# Altium footprint library Inductor_SMD.PcbLib: 587 footprints (part 14 of 37)
Each footprint in its own frame and in the unit in brackets; x right, y up, seen from the top. Pads: shape width x height; smd on the part's side, far side on the other; paste and mask are expansions set on the pad; w line width, h text height; cw(c..) or ccw(c..) is an arc to the next point about the centre after c.
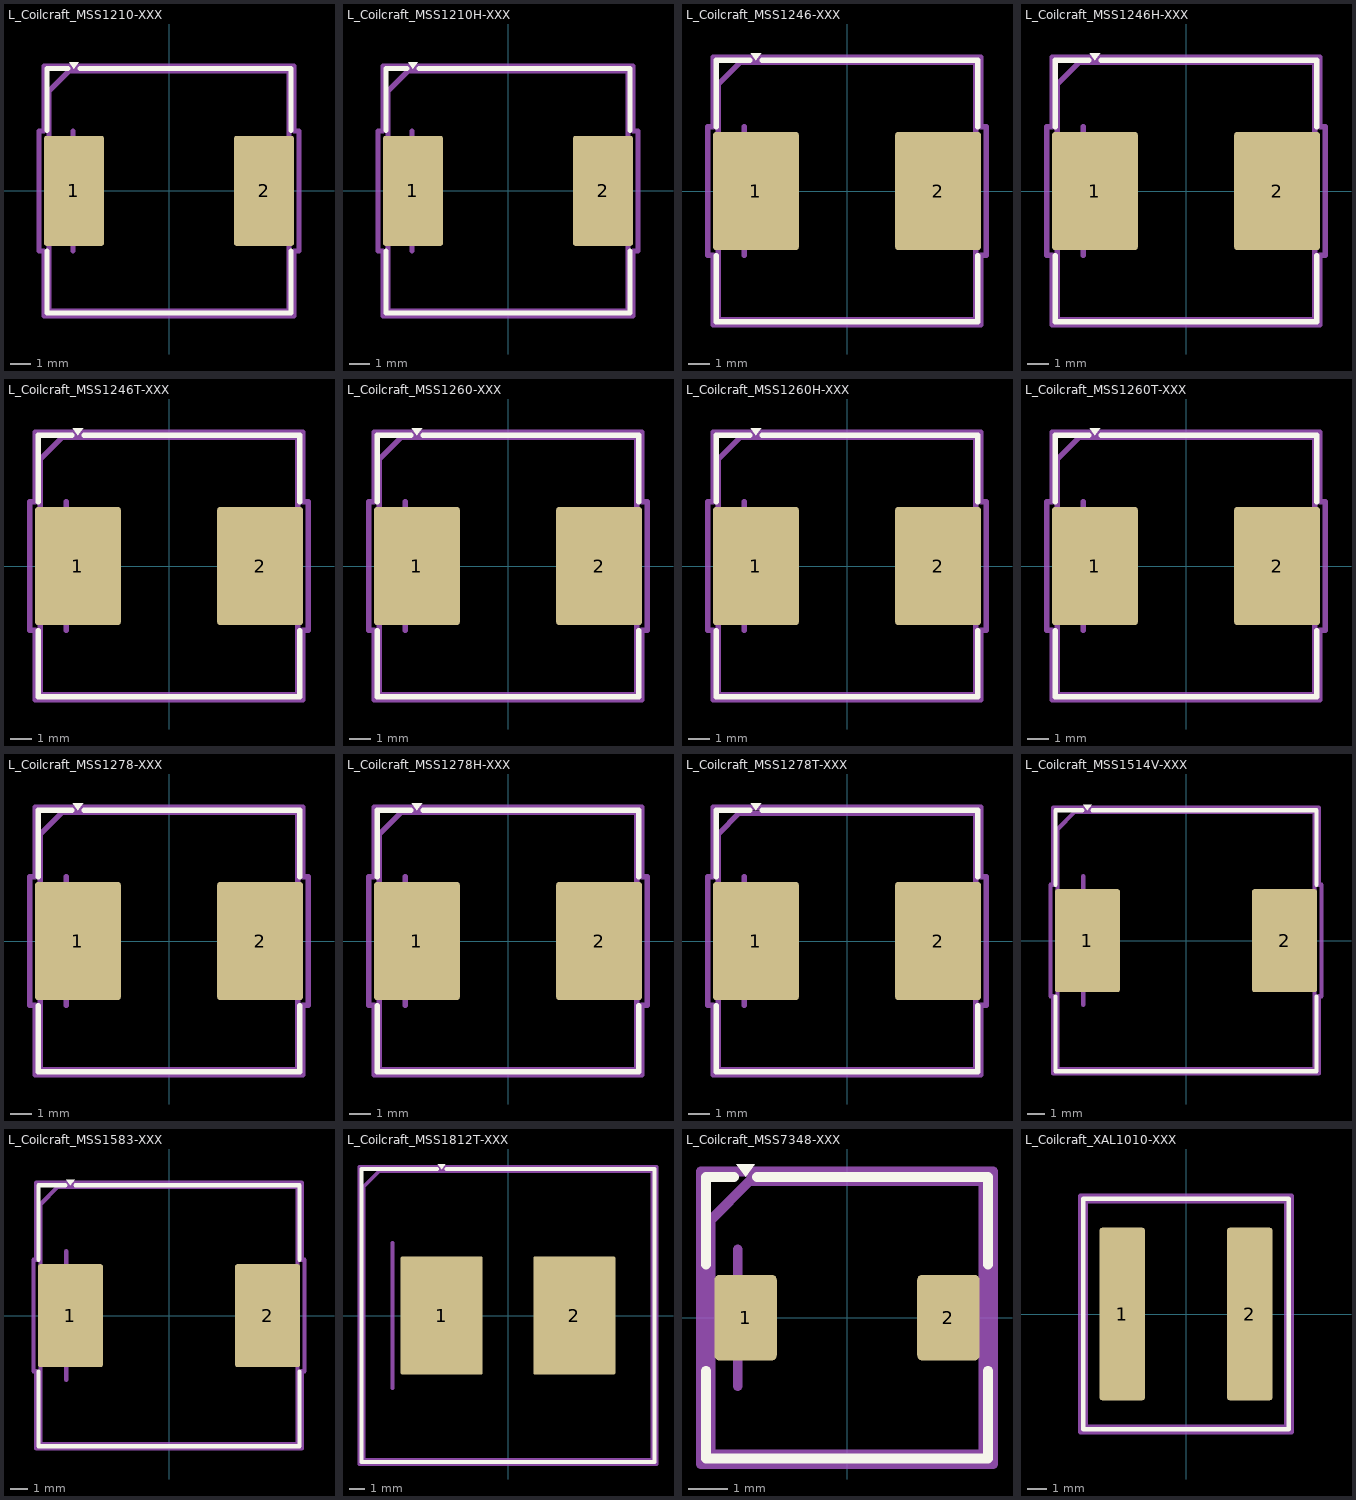
[diagram p13: the footprints below, top view; thin cyan lines are the x and y axes]

## L_Coilcraft_MSS1210-XXX [mm] "L_Coilcraft_MSS1210-XXX"
pads (2):
  rrect8% 3x5.5 smd: 1(-4.75,0) 2(4.75,0)
F.SilkS:
  region: -4.75,6.11 -4.99,6.44 -4.51,6.44
  lines w0.254: -6.11,-3.01 -6.11,-6.11 6.11,-6.11 6.11,-3.01 ; -6.11,3.01 -6.11,6.11 -5.047,6.11 ; -4.453,6.11 6.11,6.11 6.11,3.01
Top Assembly:
  lines w0.254: -4.8,-3 -4.8,3 ; -6,-6 -6,5 -5,6 6,6 6,-6 -6,-6
  text "'.Designator'" at -4.047,-0.84 h1
Top Courtyard:
  lines w0.254: -6.5,-3 -6.25,-3 -6.25,-6.25 6.25,-6.25 6.25,-3 6.5,-3 6.5,3 6.25,3 6.25,6.25 -6.25,6.25 -6.25,3 -6.5,3 -6.5,-3
Top Designator:
  text ".Designator" at -7.618,-0.476 h1.52
3D body "L_Coilcraft_MSS1210-XXX.step": height 10, standoff 0, extent -6,-6 6,6

## L_Coilcraft_MSS1210H-XXX [mm] "L_Coilcraft_MSS1210H-XXX"
pads (2):
  rrect8% 3x5.5 smd: 1(-4.75,0) 2(4.75,0)
F.SilkS:
  region: -4.75,6.11 -4.99,6.44 -4.51,6.44
  lines w0.254: -6.11,-3.01 -6.11,-6.11 6.11,-6.11 6.11,-3.01 ; -6.11,3.01 -6.11,6.11 -5.047,6.11 ; -4.453,6.11 6.11,6.11 6.11,3.01
Top Assembly:
  lines w0.254: -4.8,-3 -4.8,3 ; -6,-6 -6,5 -5,6 6,6 6,-6 -6,-6
  text "'.Designator'" at -4.047,-0.84 h1
Top Courtyard:
  lines w0.254: -6.5,-3 -6.25,-3 -6.25,-6.25 6.25,-6.25 6.25,-3 6.5,-3 6.5,3 6.25,3 6.25,6.25 -6.25,6.25 -6.25,3 -6.5,3 -6.5,-3
Top Designator:
  text ".Designator" at -7.618,-0.476 h1.52
3D body "L_Coilcraft_MSS1210H-XXX.step": height 10, standoff 0, extent -6,-6 6,6

## L_Coilcraft_MSS1246-XXX [mm] "L_Coilcraft_MSS1246-XXX"
pads (2):
  rrect6% 4x5.5 smd: 1(-4.25,0) 2(4.25,0)
F.SilkS:
  region: -4.25,6.11 -4.49,6.44 -4.01,6.44
  lines w0.254: -6.11,-3.01 -6.11,-6.11 6.11,-6.11 6.11,-3.01 ; -6.11,3.01 -6.11,6.11 -4.547,6.11 ; -3.953,6.11 6.11,6.11 6.11,3.01
Top Assembly:
  lines w0.254: -4.8,-3 -4.8,3 ; -6,-6 -6,5 -5,6 6,6 6,-6 -6,-6
  text "'.Designator'" at -4.047,-0.84 h1
Top Courtyard:
  lines w0.254: -6.5,-3 -6.25,-3 -6.25,-6.25 6.25,-6.25 6.25,-3 6.5,-3 6.5,3 6.25,3 6.25,6.25 -6.25,6.25 -6.25,3 -6.5,3 -6.5,-3
Top Designator:
  text ".Designator" at -7.618,-0.476 h1.52
3D body "L_Coilcraft_MSS1246-XXX.step": height 4.6, standoff 0, extent -6,-6 6,6

## L_Coilcraft_MSS1246H-XXX [mm] "L_Coilcraft_MSS1246H-XXX"
pads (2):
  rrect6% 4x5.5 smd: 1(-4.25,0) 2(4.25,0)
F.SilkS:
  region: -4.25,6.11 -4.49,6.44 -4.01,6.44
  lines w0.254: -6.11,-3.01 -6.11,-6.11 6.11,-6.11 6.11,-3.01 ; -6.11,3.01 -6.11,6.11 -4.547,6.11 ; -3.953,6.11 6.11,6.11 6.11,3.01
Top Assembly:
  lines w0.254: -4.8,-3 -4.8,3 ; -6,-6 6,-6 6,6 -5,6 -6,5 -6,-6
  text "'.Designator'" at -4.047,-0.84 h1
Top Courtyard:
  lines w0.254: -6.5,-3 -6.25,-3 -6.25,-6.25 6.25,-6.25 6.25,-3 6.5,-3 6.5,3 6.25,3 6.25,6.25 -6.25,6.25 -6.25,3 -6.5,3 -6.5,-3
Top Designator:
  text ".Designator" at -8.888,-0.381 h1.52
3D body "L_Coilcraft_MSS1246H-XXX.step": height 4.65, standoff 0, extent -6,-6 6,6

## L_Coilcraft_MSS1246T-XXX [mm] "L_Coilcraft_MSS1246T-XXX"
pads (2):
  rrect6% 4x5.5 smd: 1(-4.25,0) 2(4.25,0)
F.SilkS:
  region: -4.25,6.11 -4.49,6.44 -4.01,6.44
  lines w0.254: -6.11,-3.01 -6.11,-6.11 6.11,-6.11 6.11,-3.01 ; -6.11,3.01 -6.11,6.11 -4.547,6.11 ; -3.953,6.11 6.11,6.11 6.11,3.01
Top Assembly:
  lines w0.254: -4.8,-3 -4.8,3 ; -6,-6 -6,5 -5,6 6,6 6,-6 -6,-6
  text "'.Designator'" at -4.047,-0.84 h1
Top Courtyard:
  lines w0.254: -6.5,-3 -6.25,-3 -6.25,-6.25 6.25,-6.25 6.25,-3 6.5,-3 6.5,3 6.25,3 6.25,6.25 -6.25,6.25 -6.25,3 -6.5,3 -6.5,-3
Top Designator:
  text ".Designator" at -7.618,-0.476 h1.52
3D body "L_Coilcraft_MSS1246T-XXX.step": height 4.6, standoff 0, extent -6,-6 6,6

## L_Coilcraft_MSS1260-XXX [mm] "L_Coilcraft_MSS1260-XXX"
pads (2):
  rrect6% 4x5.5 smd: 1(-4.25,0) 2(4.25,0)
F.SilkS:
  region: -4.25,6.11 -4.49,6.44 -4.01,6.44
  lines w0.254: -6.11,-3.01 -6.11,-6.11 6.11,-6.11 6.11,-3.01 ; -6.11,3.01 -6.11,6.11 -4.547,6.11 ; -3.953,6.11 6.11,6.11 6.11,3.01
Top Assembly:
  lines w0.254: -4.8,-3 -4.8,3 ; -6,-6 6,-6 6,6 -5,6 -6,5 -6,-6
Top Courtyard:
  lines w0.254: -6.5,-3 -6.5,3 -6.25,3 -6.25,6.25 6.25,6.25 6.25,3 6.5,3 6.5,-3 6.25,-3 6.25,-6.25 -6.25,-6.25 -6.25,-3 -6.5,-3
Top Designator:
  text ".Designator" at -7.618,-0.476 h1.52
3D body "L_Coilcraft_MSS1260-XXX.step": height 6, standoff 0, extent -6,-6 6,6

## L_Coilcraft_MSS1260H-XXX [mm] "L_Coilcraft_MSS1260H-XXX"
pads (2):
  rrect6% 4x5.5 smd: 1(-4.25,0) 2(4.25,0)
F.SilkS:
  region: -4.25,6.11 -4.49,6.44 -4.01,6.44
  lines w0.254: -6.11,-3.01 -6.11,-6.11 6.11,-6.11 6.11,-3.01 ; -6.11,3.01 -6.11,6.11 -4.547,6.11 ; -3.953,6.11 6.11,6.11 6.11,3.01
Top Assembly:
  lines w0.254: -4.8,-3 -4.8,3 ; -6,-6 6,-6 6,6 -5,6 -6,5 -6,-6
Top Courtyard:
  lines w0.254: -6.5,-3 -6.5,3 -6.25,3 -6.25,6.25 6.25,6.25 6.25,3 6.5,3 6.5,-3 6.25,-3 6.25,-6.25 -6.25,-6.25 -6.25,-3 -6.5,-3
Top Designator:
  text ".Designator" at -7.618,-0.476 h1.52
3D body "L_Coilcraft_MSS1260H-XXX.step": height 6, standoff 0, extent -6,-6 6,6

## L_Coilcraft_MSS1260T-XXX [mm] "L_Coilcraft_MSS1260T-XXX"
pads (2):
  rrect6% 4x5.5 smd: 1(-4.25,0) 2(4.25,0)
F.SilkS:
  region: -4.25,6.11 -4.49,6.44 -4.01,6.44
  lines w0.254: -6.11,-3.01 -6.11,-6.11 6.11,-6.11 6.11,-3.01 ; -6.11,3.01 -6.11,6.11 -4.547,6.11 ; -3.953,6.11 6.11,6.11 6.11,3.01
Top Assembly:
  lines w0.254: -4.8,-3 -4.8,3 ; -6,-6 -6,5 -5,6 6,6 6,-6 -6,-6
Top Courtyard:
  lines w0.254: -6.5,-3 -6.5,3 -6.25,3 -6.25,6.25 6.25,6.25 6.25,3 6.5,3 6.5,-3 6.25,-3 6.25,-6.25 -6.25,-6.25 -6.25,-3 -6.5,-3
Top Designator:
  text ".Designator" at -7.618,-0.476 h1.52
3D body "L_Coilcraft_MSS1260T-XXX.step": height 6, standoff 0, extent -6,-6 6,6

## L_Coilcraft_MSS1278-XXX [mm] "L_Coilcraft_MSS1278-XXX"
pads (2):
  rrect6% 4x5.5 smd: 1(-4.25,0) 2(4.25,0)
F.SilkS:
  region: -4.25,6.11 -4.49,6.44 -4.01,6.44
  lines w0.254: -6.11,-3.01 -6.11,-6.11 6.11,-6.11 6.11,-3.01 ; -6.11,3.01 -6.11,6.11 -4.547,6.11 ; -3.953,6.11 6.11,6.11 6.11,3.01
Top Assembly:
  lines w0.254: -4.8,-3 -4.8,3 ; -6,-6 6,-6 6,6 -5,6 -6,5 -6,-6
  text "'.Designator'" at -4.047,-0.84 h1
Top Courtyard:
  lines w0.254: -6.5,-3 -6.25,-3 -6.25,-6.25 6.25,-6.25 6.25,-3 6.5,-3 6.5,3 6.25,3 6.25,6.25 -6.25,6.25 -6.25,3 -6.5,3 -6.5,-3
Top Designator:
  text ".Designator" at -7.618,-0.476 h1.52
3D body "L_Coilcraft_MSS1278-XXX.step": height 7.8, standoff 0, extent -6,-6 6,6

## L_Coilcraft_MSS1278H-XXX [mm] "L_Coilcraft_MSS1278H-XXX"
pads (2):
  rrect6% 4x5.5 smd: 1(-4.25,0) 2(4.25,0)
F.SilkS:
  region: -4.25,6.11 -4.49,6.44 -4.01,6.44
  lines w0.254: -6.11,-3.01 -6.11,-6.11 6.11,-6.11 6.11,-3.01 ; -6.11,3.01 -6.11,6.11 -4.547,6.11 ; -3.953,6.11 6.11,6.11 6.11,3.01
Top Assembly:
  lines w0.254: -4.8,-3 -4.8,3 ; -6,-6 -6,5 -5,6 6,6 6,-6 -6,-6
  text "'.Designator'" at -4.047,-0.84 h1
Top Courtyard:
  lines w0.254: -6.5,-3 -6.5,3 -6.25,3 -6.25,6.25 6.25,6.25 6.25,3 6.5,3 6.5,-3 6.25,-3 6.25,-6.25 -6.25,-6.25 -6.25,-3 -6.5,-3
Top Designator:
  text ".Designator" at -7.618,-0.476 h1.52
3D body "L_Coilcraft_MSS1278H-XXX.step": height 7.8, standoff 0, extent -6,-6 6,6

## L_Coilcraft_MSS1278T-XXX [mm] "L_Coilcraft_MSS1278T-XXX"
pads (2):
  rrect6% 4x5.5 smd: 1(-4.25,0) 2(4.25,0)
F.SilkS:
  region: -4.25,6.11 -4.49,6.44 -4.01,6.44
  lines w0.254: -6.11,-3.01 -6.11,-6.11 6.11,-6.11 6.11,-3.01 ; -6.11,3.01 -6.11,6.11 -4.547,6.11 ; -3.953,6.11 6.11,6.11 6.11,3.01
Top Assembly:
  lines w0.254: -4.8,-3 -4.8,3 ; -6,-6 -6,5 -5.031,5.969 -4.472,5.969 6,5.969 6,-6 -6,-6
  text "'.Designator'" at -4.047,-0.84 h1
Top Courtyard:
  lines w0.254: -6.5,-3 -6.5,3 -6.25,3 -6.25,6.25 6.25,6.25 6.25,3 6.5,3 6.5,-3 6.25,-3 6.25,-6.25 -6.25,-6.25 -6.25,-3 -6.5,-3
Top Designator:
  text ".Designator" at -7.618,-0.476 h1.52
3D body "L_Coilcraft_MSS1278T-XXX.step": height 7.8, standoff 0, extent -6,-6 6,6

## L_Coilcraft_MSS1514V-XXX [mm] "L_Coilcraft_MSS1514V-XXX"
pads (2):
  rrect7% 3.8x6 smd: 1(-5.75,0) 2(5.75,0)
F.SilkS:
  region: -5.75,7.61 -5.99,7.94 -5.51,7.94
  lines w0.254: -7.61,-3.26 -7.61,-7.61 7.61,-7.61 7.61,-3.26 ; -7.61,3.26 -7.61,7.61 -6.047,7.61 ; -5.453,7.61 7.61,7.61 7.61,3.26
Top Assembly:
  lines w0.254: -6,-3.75 -6,3.75 ; -7.5,-7.5 -7.5,6.5 -6.5,7.5 7.5,7.5 7.5,-7.5 -7.5,-7.5
  text "'.Designator'" at -4.047,-0.84 h1
Top Courtyard:
  lines w0.254: -7.9,-3.25 -7.9,3.25 -7.75,3.25 -7.75,7.75 7.75,7.75 7.75,3.25 7.9,3.25 7.9,-3.25 7.75,-3.25 7.75,-7.75 -7.75,-7.75 -7.75,-3.25 -7.9,-3.25
Top Designator:
  text ".Designator" at -7.618,-0.476 h1.52
3D body "L_Coilcraft_MSS1514V-XXX.step": height 8.6, standoff 0, extent -7.5,-7.5 7.5,7.5

## L_Coilcraft_MSS1583-XXX [mm] "L_Coilcraft_MSS1583-XXX"
pads (2):
  rrect7% 3.8x6 smd: 1(-5.75,0) 2(5.75,0)
F.SilkS:
  region: -5.75,7.61 -5.99,7.94 -5.51,7.94
  lines w0.254: -7.61,-3.26 -7.61,-7.61 7.61,-7.61 7.61,-3.26 ; -7.61,3.26 -7.61,7.61 -6.047,7.61 ; -5.453,7.61 7.61,7.61 7.61,3.26
Top Assembly:
  lines w0.254: -6,-3.75 -6,3.75 ; -7.5,-7.5 7.5,-7.5 7.5,7.5 -6.5,7.5 -7.5,6.5 -7.5,-7.5
  text "'.Designator'" at -4.047,-0.84 h1
Top Courtyard:
  lines w0.254: -7.9,-3.25 -7.75,-3.25 -7.75,-7.75 7.75,-7.75 7.75,-3.25 7.9,-3.25 7.9,3.25 7.75,3.25 7.75,7.75 -7.75,7.75 -7.75,3.25 -7.9,3.25 -7.9,-3.25
Top Designator:
  text ".Designator" at -7.618,-0.476 h1.52
3D body "L_Coilcraft_MSS1583-XXX.step": height 8.6, standoff 0, extent -7.5,-7.5 7.5,7.5

## L_Coilcraft_MSS1812T-XXX [mm] "L_Coilcraft_MSS1812T-XXX"
pads (2):
  rrect5% 5.2x7.5 smd: 1(-4.2,0) 2(4.2,0)
F.SilkS:
  region: -4.2,9.26 -4.44,9.59 -3.96,9.59
  lines w0.254: -4.497,9.26 -9.26,9.26 -9.26,-9.26 9.26,-9.26 9.26,9.26 -3.903,9.26
Top Assembly:
  lines w0.254: -7.32,-4.575 -7.32,4.575 ; -9.15,-9.15 9.15,-9.15 9.15,9.15 -8.15,9.15 -9.15,8.15 -9.15,-9.15
  text "'.Designator'" at -4.047,-0.84 h1
Top Courtyard:
  lines w0.254: -9.4,-9.4 -9.4,9.4 9.4,9.4 9.4,-9.4 -9.4,-9.4
Top Designator:
  text ".Designator" at -7.618,-0.476 h1.52
3D body "L_Coilcraft_MSS1812T-XXX.step": height 12, standoff 0, extent -9.15,-9.15 9.15,9.15

## L_Coilcraft_MSS7348-XXX [mm] "L_Coilcraft_MSS7348-XXX"
pads (2):
  rrect16% 1.6x2.2 smd: 1(-2.6,0) 2(2.6,0)
F.SilkS:
  region: -2.6,3.61 -2.84,3.94 -2.36,3.94
  lines w0.254: -3.61,-1.36 -3.61,-3.61 3.61,-3.61 3.61,-1.36 ; -3.61,1.36 -3.61,3.61 -2.897,3.61 ; -2.303,3.61 3.61,3.61 3.61,1.36
Top Assembly:
  lines w0.254: -2.8,-1.75 -2.8,1.75 ; -3.5,-3.5 -3.5,2.5 -2.5,3.5 3.5,3.5 3.5,-3.5 -3.5,-3.5
  text "'.Designator'" at -4.047,-0.84 h1
Top Courtyard:
  lines w0.254: -3.75,-3.75 3.75,-3.75 3.75,3.75 -3.75,3.75 -3.75,-3.75
Top Designator:
  text ".Designator" at -7.768,-0.476 h1.52
3D body "L_Coilcraft_MSS7348-XXX.step": height 4.5, standoff 0, extent -3.5,-3.5 3.5,3.5

## L_Coilcraft_XAL1010-XXX [mm] "L_Coilcraft_XAL1010-XXX"
pads (2):
  rrect11% 2.38x9 smd: 1(-3.325,0) 2(3.325,0)
F.SilkS:
  lines w0.254: -5.36,-6.01 -5.36,6.01 5.36,6.01 5.36,-6.01 -5.36,-6.01
Top Assembly:
  lines w0.254: -5.25,-5.9 -5.25,5.9 5.25,5.9 5.25,-5.9 -5.25,-5.9
  text "'.Designator'" at -4.047,-0.84 h1
Top Courtyard:
  lines w0.254: -5.5,-6.15 -5.5,6.15 5.5,6.15 5.5,-6.15 -5.5,-6.15
Top Designator:
  text ".Designator" at -7.618,-0.508 h1.52
3D body "L_Coilcraft_XAL1010-XXX.step": height 10, standoff 0, extent -5.25,-5.9 5.25,5.9